# EAGLE library part DAC5571IDBVTG4 (library DAC5571IDBVTG4)
Digital to Analog Converters - DAC Low-power 8-Bit w/hi-speed I2C Input Source: Datasheet <https://www.ti.com/lit/ds/symlink/dac5571.pdf>
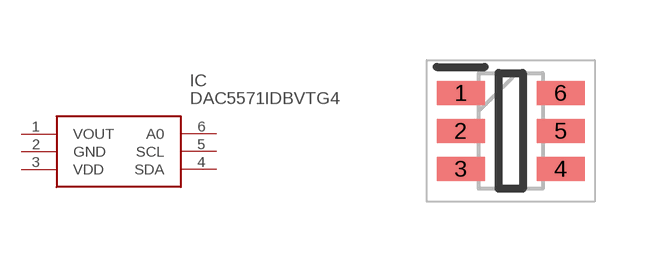
[diagram p0: symbol with the pads of SOT95P280X145-6N; footprint SOT95P280X145-6N]

Designator prefix IC

## DAC5571IDBVTG4 (Arrow_Part_Number: DAC5571IDBVTG4; Arrow_Price-Stock: https://www.arrow.com/en/products/dac5571idbvtg4/texas-instruments; Description: Digital to Analog Converters - DAC Low-power 8-Bit w/hi-speed I2C Input; Height: 1.45mm; Manufacturer_Name: Texas Instruments; Manufacturer_Part_Number: DAC5571IDBVTG4; Mouser_Part_Number: 595-DAC5571IDBVTG4; Mouser_Price-Stock: https://www.mouser.co.uk/ProductDetail/Texas-Instruments/DAC5571IDBVTG4?qs=vul0MlC%2Fa1dIXBAlKeMYTQ%3D%3D)  [SOT95P280X145-6N]
1  VOUT
2  GND
3  VDD
4  SDA
5  SCL
6  A0

## Footprint SOT95P280X145-6N (pad centres in mm)
DBV0006A
smd 1.2 x 0.6: 1 -1.25,0.95; 2 -1.25,0; 3 -1.25,-0.95; 4 1.25,-0.95; 5 1.25,0; 6 1.25,0.95